# EAGLE library part MCP4451-103E/ST (library 911_circuits)
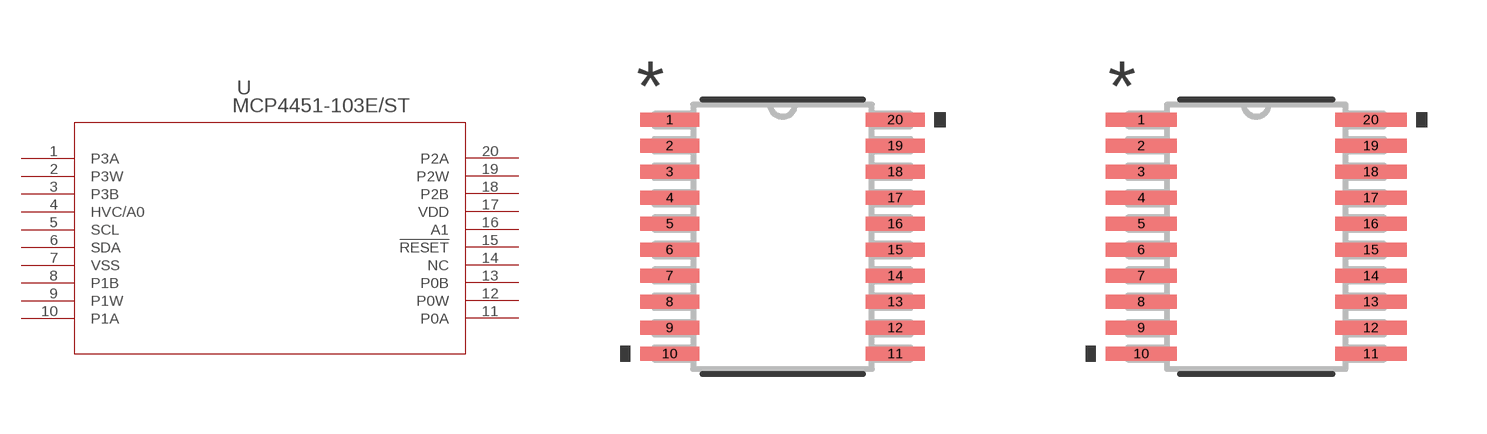
[diagram p9: symbol with the pads of TSSOP20_MC_MCH; footprints TSSOP20_MC_MCH, TSSOP20_MC_MCH-M]

Designator prefix U

## MCP4451-103E/ST (COPYRIGHT: Copyright (C) 2025 Ultra Librarian. All rights reserved.; MANUFACTURER_PART_NUMBER: MCP4451-103E/ST; MFR_NAME: Microchip)  [TSSOP20_MC_MCH]
1  P3A  pas
2  P3W  pas
3  P3B  pas
4  HVC/A0  in
5  SCL  in
6  SDA  in
7  VSS  pwr
8  P1B  pas
9  P1W  pas
10  P1A  pas
11  P0A  pas
12  P0W  pas
13  P0B  pas
14  NC  nc
15  !RESET  in
16  A1  in
17  VDD  pwr
18  P2B  pas
19  P2W  pas
20  P2A  pas

## MCP4451-103E/STTSSOP20_MC_MCH-M (COPYRIGHT: Copyright (C) 2025 Ultra Librarian. All rights reserved.; MANUFACTURER_PART_NUMBER: MCP4451-103E/ST; MFR_NAME: Microchip)  [TSSOP20_MC_MCH-M]
Pads as for TSSOP20_MC_MCH

## MCP4451-103E/STTSSOP20_MC_MCH-L (COPYRIGHT: Copyright (C) 2025 Ultra Librarian. All rights reserved.; MANUFACTURER_PART_NUMBER: MCP4451-103E/ST; MFR_NAME: Microchip)  [TSSOP20_MC_MCH-L]
Pads as for TSSOP20_MC_MCH

## Footprint TSSOP20_MC_MCH (pad centres in mm)
smd 1.473 x 0.356: 1 -2.819,2.925; 2 -2.819,2.275; 3 -2.819,1.625; 4 -2.819,0.975; 5 -2.819,0.325; 6 -2.819,-0.325; 7 -2.819,-0.975; 8 -2.819,-1.625; 9 -2.819,-2.275; 10 -2.819,-2.925; 11 2.819,-2.925; 12 2.819,-2.275; 13 2.819,-1.625; 14 2.819,-0.975; 15 2.819,-0.325; 16 2.819,0.325; 17 2.819,0.975; 18 2.819,1.625; 19 2.819,2.275; 20 2.819,2.925

## Footprint TSSOP20_MC_MCH-M (pad centres in mm)
smd 1.778 x 0.356: 1 -2.87,2.925; 2 -2.87,2.275; 3 -2.87,1.625; 4 -2.87,0.975; 5 -2.87,0.325; 6 -2.87,-0.325; 7 -2.87,-0.975; 8 -2.87,-1.625; 9 -2.87,-2.275; 10 -2.87,-2.925; 11 2.87,-2.925; 12 2.87,-2.275; 13 2.87,-1.625; 14 2.87,-0.975; 15 2.87,-0.325; 16 2.87,0.325; 17 2.87,0.975; 18 2.87,1.625; 19 2.87,2.275; 20 2.87,2.925

## Footprint TSSOP20_MC_MCH-L (pad centres in mm)
smd 1.168 x 0.305: 1 -2.769,2.925; 2 -2.769,2.275; 3 -2.769,1.625; 4 -2.769,0.975; 5 -2.769,0.325; 6 -2.769,-0.325; 7 -2.769,-0.975; 8 -2.769,-1.625; 9 -2.769,-2.275; 10 -2.769,-2.925; 11 2.769,-2.925; 12 2.769,-2.275; 13 2.769,-1.625; 14 2.769,-0.975; 15 2.769,-0.325; 16 2.769,0.325; 17 2.769,0.975; 18 2.769,1.625; 19 2.769,2.275; 20 2.769,2.925